# EAGLE library part 1X14 (library PiB_connectors)
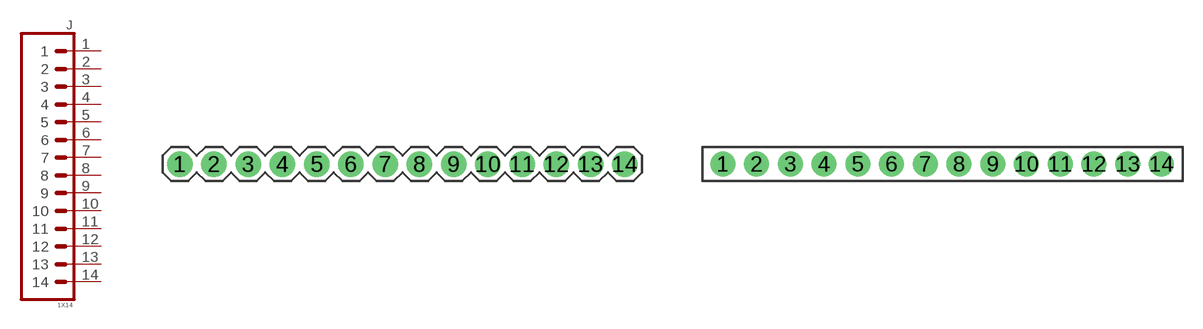
[diagram p0: symbol with the pads of 1X14-VERT-MALE; footprints 1X14-VERT-MALE, 1X14-VERT-FEMALE]

Designator prefix J

## 1X14_VERT-MALE (CREATOR: MrSwirlyEyes; DATASHEET: http://www.sullinscorp.com/catalogs/77_PAGE108-109_.100_MALE_HDR.pdf; DIST: Digikey; DISTLINK: https://www.digikey.com/products/en?keywords=PEC14SAAN; DISTPN: S1012E-14-ND; MFR: Sullins Connector Solutions; MPN: PEC14SAAN; TESTED: NO; VALUE: 1x14-VERT-MALE)  [1X14-VERT-MALE]
1  1  pas
2  2  pas
3  3  pas
4  4  pas
5  5  pas
6  6  pas
7  7  pas
8  8  pas
9  9  pas
10  10  pas
11  11  pas
12  12  pas
13  13  pas
14  14  pas

## 1X14_PTH_VERT-FEMALE_2.54MM (DATASHEET: http://www.sullinscorp.com/drawings/78_P(N)PxCxxxLFBN-RC,_10492-H.pdf; DIST: Digikey; DISTLINK: https://www.digikey.com/products/en?keywords=PPPC141LFBN-RC; DISTPN: S7047-ND; MFR: Sullins Connector Solutions; MPN: PPPC141LFBN-RC; VALUE: 1x14 VERT FEMALE)  [1X14-VERT-FEMALE]
Pads as for 1X14-VERT-MALE

## 1X14_PTH_RA_MALE_2.54MM (DATASHEET: https://s3.amazonaws.com/catalogspreads-pdf/PAGE112-113%20.100%20MALE%20HDR.pdf; DIST: Digikey; DISTLINK: https://www.digikey.com/products/en?keywords=S1112E-14-ND; DISTPN: S1112E-14-ND; MFR: Sullins Connector Solutions; MPN: PEC14SBAN; VALUE: PTH RA MALE)  [HDRRA14W64P254_1X14_3556X254X254B]
Pads as for 1X14-VERT-MALE

## 1X14_PTH_VERT_FEMALE_2.54MM (DATASHEET: https://drawings-pdf.s3.amazonaws.com/10492.pdf; DIST: Digikey; DISTLINK: https://www.digikey.com/products/en?keywords=PPPC141LFBN-RC; DISTPN: S7047-ND; MFR: Sullins Connector Solutions; MPN: PPPC141LFBN-RC; VALUE: PTH VERT FEMALE)  [HDRVR14W64P254_1X14_3606X254X850B]
Pads as for 1X14-VERT-MALE

## Footprint 1X14-VERT-MALE (pad centres in mm)
drill 1.016 pad 1.88: 1 -16.51,0; 2 -13.97,0; 3 -11.43,0; 4 -8.89,0; 5 -6.35,0; 6 -3.81,0; 7 -1.27,0; 8 1.27,0; 9 3.81,0; 10 6.35,0; 11 8.89,0; 12 11.43,0; 13 13.97,0; 14 16.51,0

## Footprint 1X14-VERT-FEMALE (pad centres in mm)
drill 1.016 pad 1.88: 1 -16.51,0; 2 -13.97,0; 3 -11.43,0; 4 -8.89,0; 5 -6.35,0; 6 -3.81,0; 7 -1.27,0; 8 1.27,0; 9 3.81,0; 10 6.35,0; 11 8.89,0; 12 11.43,0; 13 13.97,0; 14 16.51,0

## Footprint HDRRA14W64P254_1X14_3556X254X254B (pad centres in mm)
Single-row, 14-pin Pin Header (Male) Right Angle, 2.54 mm (0.10 in) col pitch, 5.84 mm mating length, 35.56 X 2.54 X 2.54 mm body Single-row (1X14), 14-pin Pin Header (Male) Right Angle package with 2.54 mm (0.10 in) col pitch, 0.64 mm lead width, 3.05 mm tail length and 5.84 mm mating length with body size 35.56 X 2.54 X 2.54 mm, pin pattern - zigzag from bottom left
drill 1 pad 1.85: 1 -16.51,0; 2 -13.97,0; 3 -11.43,0; 4 -8.89,0; 5 -6.35,0; 6 -3.81,0; 7 -1.27,0; 8 1.27,0; 9 3.81,0; 10 6.35,0; 11 8.89,0; 12 11.43,0; 13 13.97,0; 14 16.51,0

## Footprint HDRVR14W64P254_1X14_3606X254X850B (pad centres in mm)
Single-row, 14-pin Receptacle Header (Female) Straight, 2.54 mm (0.10 in) col pitch, 8.50 mm insulator length, 36.06 X 2.54 X 8.50 mm body Single-row (1X14), 14-pin Receptacle Header (Female) Straight package with 2.54 mm (0.10 in) col pitch, 0.64 mm lead width, 3.20 mm tail length and 8.50 mm insulator length with overall size 36.06 X 2.54 X 8.50 mm, pin pattern - zigzag from bottom left
drill 1 pad 1.85: 1 -16.51,0; 2 -13.97,0; 3 -11.43,0; 4 -8.89,0; 5 -6.35,0; 6 -3.81,0; 7 -1.27,0; 8 1.27,0; 9 3.81,0; 10 6.35,0; 11 8.89,0; 12 11.43,0; 13 13.97,0; 14 16.51,0